# EAGLE library part TUSB320LAIRWBR (library TUSB320LAIRWBR)
Type-C Configuration Channel Logic and Port Control Source: Datasheet <http://www.ti.com/lit/gpn/tusb320lai>
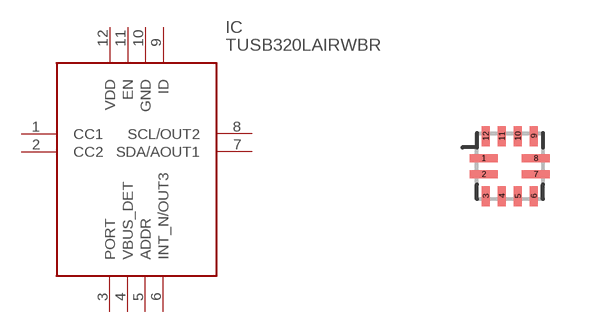
[diagram p0: symbol with the pads of RWB0012A; footprint RWB0012A]

Designator prefix IC

## TUSB320LAIRWBR (Description: Type-C Configuration Channel Logic and Port Control; Height: mm; Manufacturer_Name: Texas Instruments; Manufacturer_Part_Number: TUSB320LAIRWBR; Mouser_Part_Number: 595-TUSB320LAIRWBR; Mouser_Price-Stock: https://www.mouser.co.uk/ProductDetail/Texas-Instruments/TUSB320LAIRWBR?qs=9xotKOP9MLapokFcaOP5ag%3D%3D)  [RWB0012A]
1  CC1
2  CC2
3  PORT
4  VBUS_DET
5  ADDR
6  INT_N/OUT3
7  SDA/AOUT1
8  SCL/OUT2
9  ID
10  GND
11  EN
12  VDD

## Footprint RWB0012A (pad centres in mm)
RWB0012A
smd 0.7 x 0.2: 1 -0.65,0.2; 2 -0.65,-0.2; 7 0.65,-0.2; 8 0.65,0.2
smd 0.2 x 0.5: 3 -0.6,-0.75; 4 -0.2,-0.75; 5 0.2,-0.75; 6 0.6,-0.75; 9 0.6,0.75; 10 0.2,0.75; 11 -0.2,0.75; 12 -0.6,0.75